# EAGLE library part AD7490_TSSOP (library newchips)
Analog Devices 16-Channel, 1 MSPS, 12-Bit ADC with Sequencer
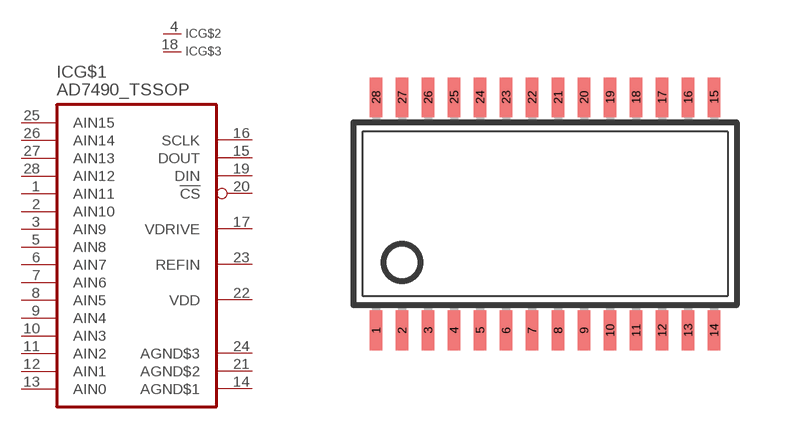
[diagram p13: symbol with the pads of TSSOP28; footprint TSSOP28]

Designator prefix IC; gates G$1=AD7490 G$2=NC G$3=NC

## AD7490_TSSOPTSSOP  [TSSOP28]
1  G$1:AIN11  in
2  G$1:AIN10  in
3  G$1:AIN9  in
4  G$2:NC  nc
5  G$1:AIN8  in
6  G$1:AIN7  in
7  G$1:AIN6  in
8  G$1:AIN5  in
9  G$1:AIN4  in
10  G$1:AIN3  in
11  G$1:AIN2  in
12  G$1:AIN1  in
13  G$1:AIN0  in
14  G$1:AGND$1  pwr
15  G$1:DOUT  out
16  G$1:SCLK  in
17  G$1:VDRIVE  in
18  G$3:NC  nc
19  G$1:DIN  in
20  G$1:!CS  in
21  G$1:AGND$2  pwr
22  G$1:VDD  pwr
23  G$1:REFIN  in
24  G$1:AGND$3  pwr
25  G$1:AIN15  in
26  G$1:AIN14  in
27  G$1:AIN13  in
28  G$1:AIN12  in

## Footprint TSSOP28 (pad centres in mm)
smd 0.305 x 0.991: 1 -4.225,-2.918; 2 -3.575,-2.918; 3 -2.925,-2.918; 4 -2.275,-2.918; 5 -1.625,-2.918; 6 -0.975,-2.918; 7 -0.325,-2.918; 8 0.325,-2.918; 9 0.975,-2.918; 10 1.625,-2.918; 11 2.275,-2.918; 12 2.925,-2.918; 13 3.575,-2.918; 14 4.225,-2.918; 15 4.225,2.918; 16 3.575,2.918; 17 2.925,2.918; 18 2.275,2.918; 19 1.625,2.918; 20 0.975,2.918; 21 0.325,2.918; 22 -0.325,2.918; 23 -0.975,2.918; 24 -1.625,2.918; 25 -2.275,2.918; 26 -2.925,2.918; 27 -3.575,2.918; 28 -4.225,2.918